# EAGLE library part XC7A100T-2FGG484I (library My_Library)
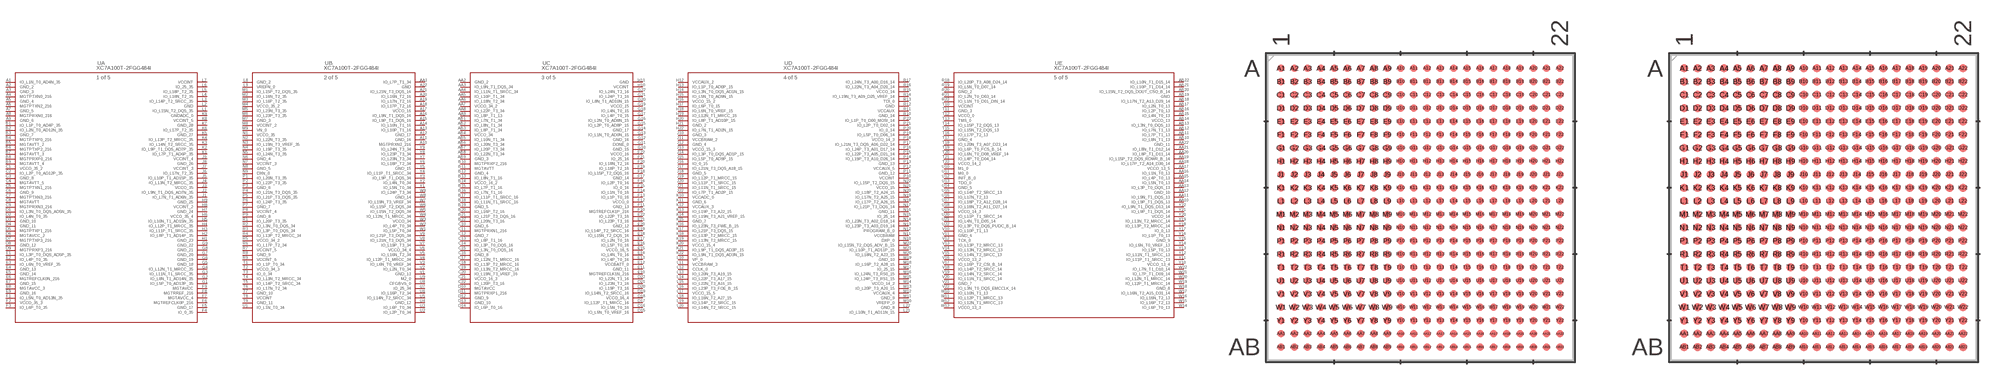
[diagram p2: symbol with the pads of FGG484(ARTIX-7)_XIL; footprints FGG484(ARTIX-7)_XIL, FGG484(ARTIX-7)_XIL-M]

Designator prefix U; gates A=XC7A100T-FGG484_A B=XC7A100T-FGG484_B C=XC7A100T-FGG484_C D=XC7A100T-FGG484_D E=XC7A100T-FGG484_E

## XC7A100T-2FGG484I (COPYRIGHT: Copyright (C) 2024 Ultra Librarian. All rights reserved.; MANUFACTURER_PART_NUMBER: XC7A100T-2FGG484I; MFR_NAME: Xilinx Inc)  [FGG484(ARTIX-7)_XIL]
A1  A:IO_L1N_T0_AD4N_35
A2  A:GND_2  pas
A3  A:GND_3  pas
A4  A:MGTPTXN0_216  out
A5  A:GND_4  pas
A6  A:MGTPTXN2_216  out
A7  A:GND_5  pas
A8  A:MGTPRXN0_216  in
A9  A:GND_6  pas
A10  B:MGTPRXN2_216  in
A11  B:GND_16  pas
A12  B:GND_17  pas
A13  B:IO_L10P_T1_16
A14  B:IO_L10N_T1_16
A15  B:IO_L9P_T1_DQS_16
A16  B:IO_L9N_T1_DQS_16
A17  B:VCCO_16  pwr
A18  B:IO_L17P_T2_16
A19  B:IO_L17N_T2_16
A20  B:IO_L16N_T2_16
A21  B:IO_L21N_T3_DQS_16
A22  B:GND  pas
AA1  B:IO_L7P_T1_34
AA2  C:GND_2  pas
AA3  C:IO_L9N_T1_DQS_34
AA4  C:IO_L11N_T1_SRCC_34
AA5  C:IO_L10P_T1_34
AA6  C:IO_L18N_T2_34
AA7  C:VCCO_34_2  pwr
AA8  C:IO_L22P_T3_34
AA9  C:IO_L8P_T1_13
AA10  E:IO_L9P_T1_DQS_13
AA11  E:IO_L9N_T1_DQS_13
AA12  E:GND_10  pas
AA13  E:IO_L3P_T0_DQS_13
AA14  E:IO_L5N_T0_13
AA15  E:IO_L4P_T0_13
AA16  E:IO_L1N_T0_13
AA17  E:VCCO_13_5  pwr
AA18  E:IO_L17P_T2_A14_D30_14
AA19  E:IO_L15P_T2_DQS_RDWR_B_14
AA20  E:IO_L8P_T1_D11_14
AA21  E:IO_L8N_T1_D12_14
AA22  E:GND_11  pas
AB1  C:IO_L7N_T1_34
AB2  C:IO_L8N_T1_34
AB3  C:IO_L8P_T1_34
AB4  C:VCCO_34  pwr
AB5  C:IO_L10N_T1_34
AB6  C:IO_L20N_T3_34
AB7  C:IO_L20P_T3_34
AB8  C:IO_L22N_T3_34
AB9  C:GND_3  pas
AB10  E:IO_L8N_T1_13
AB11  E:IO_L7P_T1_13
AB12  E:IO_L7N_T1_13
AB13  E:IO_L3N_T0_DQS_13
AB14  E:VCCO_13  pwr
AB15  E:IO_L4N_T0_13
AB16  E:IO_L2P_T0_13
AB17  E:IO_L2N_T0_13
AB18  E:IO_L17N_T2_A13_D29_14
AB19  E:GND  pas
AB20  E:IO_L15N_T2_DQS_DOUT_CSO_B_14
AB21  E:IO_L10P_T1_D14_14
AB22  E:IO_L10N_T1_D15_14
B1  A:IO_L1P_T0_AD4P_35
B2  A:IO_L2N_T0_AD12N_35
B3  A:GND_7  pas
B4  A:MGTPTXP0_216  out
B5  A:MGTAVTT_2  pwr
B6  A:MGTPTXP2_216  out
B7  A:MGTAVTT_3  pwr
B8  A:MGTPRXP0_216  in
B9  A:MGTAVTT_4  pwr
B10  C:MGTPRXP2_216  in
B11  C:MGTAVTT  pwr
B12  C:GND_4  pas
B13  C:IO_L8N_T1_16
B14  C:VCCO_16_2  pwr
B15  C:IO_L7P_T1_16
B16  C:IO_L7N_T1_16
B17  C:IO_L11P_T1_SRCC_16
B18  C:IO_L11N_T1_SRCC_16
B19  C:GND_5  pas
B20  C:IO_L16P_T2_16
B21  C:IO_L21P_T3_DQS_16
B22  C:IO_L20N_T3_16
C1  A:VCCO_35_2  pwr
C2  A:IO_L2P_T0_AD12P_35
C3  A:GND_8  pas
C4  A:MGTAVTT_5  pwr
C5  A:MGTPTXN1_216  out
C6  A:GND_9  pas
C7  A:MGTPTXN3_216  out
C8  A:MGTAVTT  pwr
C9  A:MGTPRXN3_216  in
C10  C:GND_6  pas
C11  C:MGTPRXN1_216  in
C12  C:GND_7  pas
C13  C:IO_L8P_T1_16
C14  C:IO_L3P_T0_DQS_16
C15  C:IO_L3N_T0_DQS_16
C16  C:GND_8  pas
C17  C:IO_L12N_T1_MRCC_16
C18  C:IO_L13P_T2_MRCC_16
C19  C:IO_L13N_T2_MRCC_16
C20  C:IO_L19N_T3_VREF_16
C21  C:VCCO_16_3  pwr
C22  C:IO_L20P_T3_16
D1  A:IO_L3N_T0_DQS_AD5N_35
D2  A:IO_L4N_T0_35
D3  A:GND_10  pas
D4  A:GND_11  pas
D5  A:MGTPTXP1_216  out
D6  A:MGTAVCC_2  pwr
D7  A:MGTPTXP3_216  out
D8  A:GND_12  pas
D9  A:MGTPRXP3_216  in
D10  C:MGTAVCC  pwr
D11  C:MGTPRXP1_216  in
D12  C:GND_9  pas
D13  C:GND_10  pas
D14  C:IO_L6P_T0_16
D15  C:IO_L6N_T0_VREF_16
D16  C:IO_L5N_T0_16
D17  C:IO_L12P_T1_MRCC_16
D18  C:VCCO_16_4  pwr
D19  C:IO_L14N_T2_SRCC_16
D20  C:IO_L19P_T3_16
D21  C:IO_L23N_T3_16
D22  C:IO_L22N_T3_16
E1  A:IO_L3P_T0_DQS_AD5P_35
E2  A:IO_L4P_T0_35
E3  A:IO_L6N_T0_VREF_35
E4  A:GND_13  pas
E5  A:GND_14  pas
E6  A:MGTREFCLK0N_216  in
E7  A:GND_15  pas
E8  A:MGTAVCC_3  pwr
E9  A:GND_16  pas
E10  C:MGTREFCLK1N_216  in
E11  C:GND_11  pas
E12  C:VCCBATT_0  pwr
E13  C:IO_L4P_T0_16
E14  C:IO_L4N_T0_16
E15  C:VCCO_16_5  pwr
E16  C:IO_L5P_T0_16
E17  C:IO_L2N_T0_16
E18  C:IO_L15N_T2_DQS_16
E19  C:IO_L14P_T2_SRCC_16
E20  C:GND_12  pas
E21  C:IO_L23P_T3_16
E22  C:IO_L22P_T3_16
F1  A:IO_L5N_T0_AD13N_35
F2  A:VCCO_35_3  pwr
F3  A:IO_L6P_T0_35
F4  A:IO_0_35
F5  A:GND_17  pas
F6  A:MGTREFCLK0P_216  in
F7  A:MGTAVCC_4  pwr
F8  A:MGTRREF_216  in
F9  A:MGTAVCC  pwr
F10  C:MGTREFCLK1P_216  in
F11  C:GND_13  pas
F12  C:VCCO_0  pwr
F13  C:IO_L1P_T0_16
F14  C:IO_L1N_T0_16
F15  C:IO_0_16
F16  C:IO_L2P_T0_16
F17  C:GND_14  pas
F18  C:IO_L15P_T2_DQS_16
F19  C:IO_L18P_T2_16
F20  C:IO_L18N_T2_16
F21  C:IO_25_16
F22  C:VCCO_16  pwr
G1  A:IO_L5P_T0_AD13P_35
G2  A:IO_L8N_T1_AD14N_35
G3  A:IO_L11N_T1_SRCC_35
G4  A:IO_L12N_T1_MRCC_35
G5  A:GND_18  pas
G6  A:GND_19  pas
G7  A:GND_20  pas
G8  A:GND_21  pas
G9  A:GND_22  pas
G10  C:GND_15  pas
G11  C:DONE_0
G12  C:GND_16  pas
G13  C:IO_L1N_T0_AD0N_15
G14  C:GND_17  pas
G15  C:IO_L2P_T0_AD8P_15
G16  C:IO_L2N_T0_AD8N_15
G17  C:IO_L4P_T0_15
G18  C:IO_L4N_T0_15
G19  C:VCCO_15  pwr
G20  C:IO_L8N_T1_AD10N_15
G21  C:IO_L24P_T3_16
G22  C:IO_L24N_T3_16
H1  A:GND_23  pas
H2  A:IO_L8P_T1_AD14P_35
H3  A:IO_L11P_T1_SRCC_35
H4  A:IO_L12P_T1_MRCC_35
H5  A:IO_L10N_T1_AD15N_35
H6  A:VCCO_35_4  pwr
H7  A:GND_24  pas
H8  A:VCCINT_2  pwr
H9  A:GND_25  pas
H10  C:VCCINT  pwr
H11  C:GND  pas
H12  D:VCCAUX_2  pwr
H13  D:IO_L1P_T0_AD0P_15
H14  D:IO_L3N_T0_DQS_AD1N_15
H15  D:IO_L5N_T0_AD9N_15
H16  D:VCCO_15_2  pwr
H17  D:IO_L6P_T0_15
H18  D:IO_L6N_T0_VREF_15
H19  D:IO_L12N_T1_MRCC_15
H20  D:IO_L8P_T1_AD10P_15
H21  D:GND_2  pas
H22  D:IO_L7N_T1_AD2N_15
J1  A:IO_L7N_T1_AD6N_35
J2  A:IO_L9N_T1_DQS_AD7N_35
J3  A:VCCO_35  pwr
J4  A:IO_L13N_T2_MRCC_35
J5  A:IO_L10P_T1_AD15P_35
J6  A:IO_L17N_T2_35
J7  A:VCCINT_3  pwr
J8  A:GND_26  pas
J9  A:VCCINT_4  pwr
J10  D:GND_3  pas
J11  D:VCCBRAM_2  pwr
J12  D:GND_4  pas
J13  D:VCCO_15_3  pwr
J14  D:IO_L3P_T0_DQS_AD1P_15
J15  D:IO_L5P_T0_AD9P_15
J16  D:IO_0_15
J17  D:IO_L21N_T3_DQS_A18_15
J18  D:GND_5  pas
J19  D:IO_L12P_T1_MRCC_15
J20  D:IO_L11P_T1_SRCC_15
J21  D:IO_L11N_T1_SRCC_15
J22  D:IO_L7P_T1_AD2P_15
K1  A:IO_L7P_T1_AD6P_35
K2  A:IO_L9P_T1_DQS_AD7P_35
K3  A:IO_L14N_T2_SRCC_35
K4  A:IO_L13P_T2_MRCC_35
K5  A:GND_27  pas
K6  A:IO_L17P_T2_35
K7  A:GND_28  pas
K8  A:VCCINT_5  pwr
K9  A:GNDADC_0  pas
K10  D:VCCADC_0  pwr
K11  D:GND_6  pas
K12  D:VCCAUX_3  pwr
K13  D:IO_L19P_T3_A22_15
K14  D:IO_L19N_T3_A21_VREF_15
K15  D:GND_7  pas
K16  D:IO_L23N_T3_FWE_B_15
K17  D:IO_L21P_T3_DQS_15
K18  D:IO_L13P_T2_MRCC_15
K19  D:IO_L13N_T2_MRCC_15
K20  D:VCCO_15_4  pwr
K21  D:IO_L9P_T1_DQS_AD3P_15
K22  D:IO_L9N_T1_DQS_AD3N_15
L1  A:IO_L15N_T2_DQS_35
L2  A:GND  pas
L3  A:IO_L14P_T2_SRCC_35
L4  A:IO_L18N_T2_35
L5  A:IO_L18P_T2_35
L6  A:IO_25_35
L7  A:VCCINT  pwr
L8  B:GND_2  pas
L9  B:VREFN_0  pwr
L10  D:VP_0  in
L11  D:VCCBRAM_3  pwr
L12  D:CCLK_0
L13  D:IO_L20N_T3_A19_15
L14  D:IO_L22P_T3_A17_15
L15  D:IO_L22N_T3_A16_15
L16  D:IO_L23P_T3_FOE_B_15
L17  D:VCCO_15_5  pwr
L18  D:IO_L16N_T2_A27_15
L19  D:IO_L14P_T2_SRCC_15
L20  D:IO_L14N_T2_SRCC_15
L21  D:IO_L10N_T1_AD11N_15
L22  D:GND_8  pas
M1  B:IO_L15P_T2_DQS_35
M2  B:IO_L16N_T2_35
M3  B:IO_L16P_T2_35
M4  B:VCCO_35_2  pwr
M5  B:IO_L23N_T3_35
M6  B:IO_L23P_T3_35
M7  B:GND_3  pas
M8  B:VCCINT_2  pwr
M9  B:VN_0  in
M10  D:VREFP_0  pwr
M11  D:GND_9  pas
M12  D:VCCAUX_4  pwr
M13  D:IO_L20P_T3_A20_15
M14  D:VCCO_14_2  pwr
M15  D:IO_L24P_T3_RS1_15
M16  D:IO_L24N_T3_RS0_15
M17  D:IO_25_15
M18  D:IO_L16P_T2_A28_15
M19  D:GND_10  pas
M20  D:IO_L18N_T2_A23_15
M21  D:IO_L10P_T1_AD11P_15
M22  D:IO_L15N_T2_DQS_ADV_B_15
N1  B:VCCO_35  pwr
N2  B:IO_L22N_T3_35
N3  B:IO_L19N_T3_VREF_35
N4  B:IO_L19P_T3_35
N5  B:IO_L24N_T3_35
N6  B:GND_4  pas
N7  B:VCCINT_3  pwr
N8  B:GND_5  pas
N9  B:DXN_0  pas
N10  D:DXP_0  pas
N11  D:VCCBRAM  pwr
N12  D:PROGRAM_B_0  in
N13  D:IO_L23P_T3_A03_D19_14
N14  D:IO_L23N_T3_A02_D18_14
N15  D:IO_25_14
N16  D:GND_11  pas
N17  D:IO_L21P_T3_DQS_14
N18  D:IO_L17P_T2_A26_15
N19  D:IO_L17N_T2_A25_15
N20  D:IO_L18P_T2_A24_15
N21  D:VCCO_15  pwr
N22  D:IO_L15P_T2_DQS_15
P1  B:IO_L20N_T3_35
P2  B:IO_L22P_T3_35
P3  B:GND_6  pas
P4  B:IO_L21N_T3_DQS_35
P5  B:IO_L21P_T3_DQS_35
P6  B:IO_L24P_T3_35
P7  B:GND_7  pas
P8  B:VCCINT_4  pwr
P9  B:GND_8  pas
P10  D:VCCINT  pwr
P11  D:GND_12  pas
P12  D:VCCAUX_5  pwr
P13  D:GND_13  pas
P14  D:IO_L19P_T3_A10_D26_14
P15  D:IO_L22P_T3_A05_D21_14
P16  D:IO_L24P_T3_A01_D17_14
P17  D:IO_L21N_T3_DQS_A06_D22_14
P18  D:VCCO_14_3  pwr
P19  D:IO_L5P_T0_D06_14
P20  D:IO_0_14
P21  D:IO_L2P_T0_D02_14
P22  D:IO_L1P_T0_D00_MOSI_14
R1  B:IO_L20P_T3_35
R2  B:IO_L3N_T0_DQS_34
R3  B:IO_L3P_T0_DQS_34
R4  B:IO_L13P_T2_MRCC_34
R5  B:VCCO_34_2  pwr
R6  B:IO_L17P_T2_34
R7  B:VCCINT_5  pwr
R8  B:GND_9  pas
R9  B:VCCINT_6  pwr
R10  D:GND_14  pas
R11  D:VCCAUX  pwr
R12  D:GND  pas
R13  D:TDI_0  in
R14  D:IO_L19N_T3_A09_D25_VREF_14
R15  D:VCCO_14  pwr
R16  D:IO_L22N_T3_A04_D20_14
R17  D:IO_L24N_T3_A00_D16_14
R18  E:IO_L20P_T3_A08_D24_14
R19  E:IO_L5N_T0_D07_14
R20  E:GND_2  pas
R21  E:IO_L2N_T0_D03_14
R22  E:IO_L1N_T0_D01_DIN_14
T1  B:IO_L1P_T0_34
T2  B:VCCO_34_3  pwr
T3  B:IO_0_34
T4  B:IO_L13N_T2_MRCC_34
T5  B:IO_L14P_T2_SRCC_34
T6  B:IO_L17N_T2_34
T7  B:GND_10  pas
T8  B:VCCINT  pwr
T9  B:GND_11  pas
T10  E:VCCINT  pwr
T11  E:GND_3  pas
T12  E:VCCO_0  pwr
T13  E:TMS_0  in
T14  E:IO_L15P_T2_DQS_13
T15  E:IO_L15N_T2_DQS_13
T16  E:IO_L17P_T2_13
T17  E:GND_4  pas
T18  E:IO_L20N_T3_A07_D23_14
T19  E:IO_L6P_T0_FCS_B_14
T20  E:IO_L6N_T0_D08_VREF_14
T21  E:IO_L4P_T0_D04_14
T22  E:VCCO_14_2  pwr
U1  B:IO_L1N_T0_34
U2  B:IO_L2P_T0_34
U3  B:IO_L6P_T0_34
U4  B:GND_12  pas
U5  B:IO_L14N_T2_SRCC_34
U6  B:IO_L16P_T2_34
U7  B:IO_25_34
U8  B:CFGBVS_0  in
U9  B:M2_0  in
U10  E:M1_0  in
U11  E:M0_0  in
U12  E:INIT_B_0
U13  E:TDO_0  out
U14  E:GND_5  pas
U15  E:IO_L14P_T2_SRCC_13
U16  E:IO_L17N_T2_13
U17  E:IO_L18P_T2_A12_D28_14
U18  E:IO_L18N_T2_A11_D27_14
U19  E:VCCO_14_3  pwr
U20  E:IO_L11P_T1_SRCC_14
U21  E:IO_L4N_T0_D05_14
U22  E:IO_L3P_T0_DQS_PUDC_B_14
V1  B:GND_13  pas
V2  B:IO_L2N_T0_34
V3  B:IO_L6N_T0_VREF_34
V4  B:IO_L12P_T1_MRCC_34
V5  B:IO_L16N_T2_34
V6  B:VCCO_34_4  pwr
V7  B:IO_L19P_T3_34
V8  B:IO_L21N_T3_DQS_34
V9  B:IO_L21P_T3_DQS_34
V10  E:IO_L10P_T1_13
V11  E:GND_6  pas
V12  E:TCK_0  in
V13  E:IO_L13P_T2_MRCC_13
V14  E:IO_L13N_T2_MRCC_13
V15  E:IO_L14N_T2_SRCC_13
V16  E:VCCO_13_2  pwr
V17  E:IO_L16P_T2_CSI_B_14
V18  E:IO_L14P_T2_SRCC_14
V19  E:IO_L14N_T2_SRCC_14
V20  E:IO_L11N_T1_SRCC_14
V21  E:GND_7  pas
V22  E:IO_L3N_T0_DQS_EMCCLK_14
W1  B:IO_L5P_T0_34
W2  B:IO_L4P_T0_34
W3  B:VCCO_34  pwr
W4  B:IO_L12N_T1_MRCC_34
W5  B:IO_L15N_T2_DQS_34
W6  B:IO_L15P_T2_DQS_34
W7  B:IO_L19N_T3_VREF_34
W8  B:GND_14  pas
W9  B:IO_L24P_T3_34
W10  E:IO_L10N_T1_13
W11  E:IO_L12P_T1_MRCC_13
W12  E:IO_L12N_T1_MRCC_13
W13  E:VCCO_13_3  pwr
W14  E:IO_L6P_T0_13
W15  E:IO_L16P_T2_13
W16  E:IO_L16N_T2_13
W17  E:IO_L16N_T2_A15_D31_14
W18  E:GND_8  pas
W19  E:IO_L12P_T1_MRCC_14
W20  E:IO_L12N_T1_MRCC_14
W21  E:IO_L7P_T1_D09_14
W22  E:IO_L7N_T1_D10_14
Y1  B:IO_L5N_T0_34
Y2  B:IO_L4N_T0_34
Y3  B:IO_L9P_T1_DQS_34
Y4  B:IO_L11P_T1_SRCC_34
Y5  B:GND_15  pas
Y6  B:IO_L18P_T2_34
Y7  B:IO_L23N_T3_34
Y8  B:IO_L23P_T3_34
Y9  B:IO_L24N_T3_34
Y10  E:VCCO_13_4  pwr
Y11  E:IO_L11P_T1_SRCC_13
Y12  E:IO_L11N_T1_SRCC_13
Y13  E:IO_L5P_T0_13
Y14  E:IO_L6N_T0_VREF_13
Y15  E:GND_9  pas
Y16  E:IO_L1P_T0_13
Y17  E:IO_0_13
Y18  E:IO_L13P_T2_MRCC_14
Y19  E:IO_L13N_T2_MRCC_14
Y20  E:VCCO_14  pwr
Y21  E:IO_L9P_T1_DQS_14
Y22  E:IO_L9N_T1_DQS_D13_14

## XC7A100T-2FGG484IFGG484(ARTIX-7)_XIL-M (COPYRIGHT: Copyright (C) 2024 Ultra Librarian. All rights reserved.; MANUFACTURER_PART_NUMBER: XC7A100T-2FGG484I; MFR_NAME: Xilinx Inc)  [FGG484(ARTIX-7)_XIL-M]
Pads as for FGG484(ARTIX-7)_XIL

## XC7A100T-2FGG484IFGG484(ARTIX-7)_XIL-L (COPYRIGHT: Copyright (C) 2024 Ultra Librarian. All rights reserved.; MANUFACTURER_PART_NUMBER: XC7A100T-2FGG484I; MFR_NAME: Xilinx Inc)  [FGG484(ARTIX-7)_XIL-L]
Pads as for FGG484(ARTIX-7)_XIL

## Footprint FGG484(ARTIX-7)_XIL (pad centres in mm)
smd 0.559 x 0.559: A1 -10.5,10.5; A2 -9.5,10.5; A3 -8.5,10.5; A4 -7.5,10.5; A5 -6.5,10.5; A6 -5.5,10.5; A7 -4.5,10.5; A8 -3.5,10.5; A9 -2.5,10.5; A10 -1.5,10.5; A11 -0.5,10.5; A12 0.5,10.5; A13 1.5,10.5; A14 2.5,10.5; A15 3.5,10.5; A16 4.5,10.5; A17 5.5,10.5; A18 6.5,10.5; A19 7.5,10.5; A20 8.5,10.5; A21 9.5,10.5; A22 10.5,10.5; AA1 -10.5,-9.5; AA2 -9.5,-9.5; AA3 -8.5,-9.5; AA4 -7.5,-9.5; AA5 -6.5,-9.5; AA6 -5.5,-9.5; AA7 -4.5,-9.5; AA8 -3.5,-9.5; AA9 -2.5,-9.5; AA10 -1.5,-9.5; AA11 -0.5,-9.5; AA12 0.5,-9.5; AA13 1.5,-9.5; AA14 2.5,-9.5; AA15 3.5,-9.5; AA16 4.5,-9.5; AA17 5.5,-9.5; AA18 6.5,-9.5; AA19 7.5,-9.5; AA20 8.5,-9.5; AA21 9.5,-9.5; AA22 10.5,-9.5; AB1 -10.5,-10.5; AB2 -9.5,-10.5; AB3 -8.5,-10.5; AB4 -7.5,-10.5; AB5 -6.5,-10.5; AB6 -5.5,-10.5; AB7 -4.5,-10.5; AB8 -3.5,-10.5; AB9 -2.5,-10.5; AB10 -1.5,-10.5; AB11 -0.5,-10.5; AB12 0.5,-10.5; AB13 1.5,-10.5; AB14 2.5,-10.5; AB15 3.5,-10.5; AB16 4.5,-10.5; AB17 5.5,-10.5; AB18 6.5,-10.5; AB19 7.5,-10.5; AB20 8.5,-10.5; AB21 9.5,-10.5; AB22 10.5,-10.5; B1 -10.5,9.5; B2 -9.5,9.5; B3 -8.5,9.5; B4 -7.5,9.5; B5 -6.5,9.5; B6 -5.5,9.5; B7 -4.5,9.5; B8 -3.5,9.5; B9 -2.5,9.5; B10 -1.5,9.5; B11 -0.5,9.5; B12 0.5,9.5; B13 1.5,9.5; B14 2.5,9.5; B15 3.5,9.5; B16 4.5,9.5; B17 5.5,9.5; B18 6.5,9.5; B19 7.5,9.5; B20 8.5,9.5; B21 9.5,9.5; B22 10.5,9.5; C1 -10.5,8.5; C2 -9.5,8.5; C3 -8.5,8.5; C4 -7.5,8.5; C5 -6.5,8.5; C6 -5.5,8.5; C7 -4.5,8.5; C8 -3.5,8.5; C9 -2.5,8.5; C10 -1.5,8.5; C11 -0.5,8.5; C12 0.5,8.5; C13 1.5,8.5; C14 2.5,8.5; C15 3.5,8.5; C16 4.5,8.5; C17 5.5,8.5; C18 6.5,8.5; C19 7.5,8.5; C20 8.5,8.5; C21 9.5,8.5; C22 10.5,8.5; D1 -10.5,7.5; D2 -9.5,7.5; D3 -8.5,7.5; D4 -7.5,7.5; D5 -6.5,7.5; D6 -5.5,7.5; D7 -4.5,7.5; D8 -3.5,7.5; D9 -2.5,7.5; D10 -1.5,7.5; D11 -0.5,7.5; D12 0.5,7.5; D13 1.5,7.5; D14 2.5,7.5; D15 3.5,7.5; D16 4.5,7.5; D17 5.5,7.5; D18 6.5,7.5; D19 7.5,7.5; D20 8.5,7.5; D21 9.5,7.5; D22 10.5,7.5; E1 -10.5,6.5; E2 -9.5,6.5; E3 -8.5,6.5; E4 -7.5,6.5; E5 -6.5,6.5; E6 -5.5,6.5; E7 -4.5,6.5; E8 -3.5,6.5; E9 -2.5,6.5; E10 -1.5,6.5; E11 -0.5,6.5; E12 0.5,6.5; E13 1.5,6.5; E14 2.5,6.5; E15 3.5,6.5; E16 4.5,6.5; E17 5.5,6.5; E18 6.5,6.5; E19 7.5,6.5; E20 8.5,6.5; E21 9.5,6.5; E22 10.5,6.5; F1 -10.5,5.5; F2 -9.5,5.5; F3 -8.5,5.5; F4 -7.5,5.5; F5 -6.5,5.5; F6 -5.5,5.5; F7 -4.5,5.5; F8 -3.5,5.5; F9 -2.5,5.5; F10 -1.5,5.5; F11 -0.5,5.5; F12 0.5,5.5; F13 1.5,5.5; F14 2.5,5.5; F15 3.5,5.5; F16 4.5,5.5; F17 5.5,5.5; F18 6.5,5.5; F19 7.5,5.5; F20 8.5,5.5; F21 9.5,5.5; F22 10.5,5.5; G1 -10.5,4.5; G2 -9.5,4.5; G3 -8.5,4.5; G4 -7.5,4.5; G5 -6.5,4.5; G6 -5.5,4.5; G7 -4.5,4.5; G8 -3.5,4.5; G9 -2.5,4.5; G10 -1.5,4.5; G11 -0.5,4.5; G12 0.5,4.5; G13 1.5,4.5; G14 2.5,4.5; G15 3.5,4.5; G16 4.5,4.5; G17 5.5,4.5; G18 6.5,4.5; G19 7.5,4.5; G20 8.5,4.5; G21 9.5,4.5; G22 10.5,4.5; H1 -10.5,3.5; H2 -9.5,3.5; H3 -8.5,3.5; H4 -7.5,3.5; H5 -6.5,3.5; H6 -5.5,3.5; H7 -4.5,3.5; H8 -3.5,3.5; H9 -2.5,3.5; H10 -1.5,3.5; H11 -0.5,3.5; H12 0.5,3.5; H13 1.5,3.5; H14 2.5,3.5; H15 3.5,3.5; H16 4.5,3.5; H17 5.5,3.5; H18 6.5,3.5; H19 7.5,3.5; H20 8.5,3.5; H21 9.5,3.5; H22 10.5,3.5; J1 -10.5,2.5; J2 -9.5,2.5; J3 -8.5,2.5; J4 -7.5,2.5; J5 -6.5,2.5; J6 -5.5,2.5; J7 -4.5,2.5; J8 -3.5,2.5; J9 -2.5,2.5; J10 -1.5,2.5; J11 -0.5,2.5; J12 0.5,2.5; J13 1.5,2.5; J14 2.5,2.5; J15 3.5,2.5; J16 4.5,2.5; J17 5.5,2.5; J18 6.5,2.5; J19 7.5,2.5; J20 8.5,2.5; J21 9.5,2.5; J22 10.5,2.5; K1 -10.5,1.5; K2 -9.5,1.5; K3 -8.5,1.5; K4 -7.5,1.5; K5 -6.5,1.5; K6 -5.5,1.5; K7 -4.5,1.5; K8 -3.5,1.5; K9 -2.5,1.5; K10 -1.5,1.5; K11 -0.5,1.5; K12 0.5,1.5; K13 1.5,1.5; K14 2.5,1.5; K15 3.5,1.5; K16 4.5,1.5; K17 5.5,1.5; K18 6.5,1.5; K19 7.5,1.5; K20 8.5,1.5; K21 9.5,1.5; K22 10.5,1.5; L1 -10.5,0.5; L2 -9.5,0.5; L3 -8.5,0.5; L4 -7.5,0.5; L5 -6.5,0.5; L6 -5.5,0.5; L7 -4.5,0.5; L8 -3.5,0.5; L9 -2.5,0.5; L10 -1.5,0.5; L11 -0.5,0.5; L12 0.5,0.5; L13 1.5,0.5; L14 2.5,0.5; L15 3.5,0.5; L16 4.5,0.5; L17 5.5,0.5; L18 6.5,0.5; L19 7.5,0.5; L20 8.5,0.5; L21 9.5,0.5; L22 10.5,0.5; M1 -10.5,-0.5; M2 -9.5,-0.5; M3 -8.5,-0.5; M4 -7.5,-0.5; M5 -6.5,-0.5; M6 -5.5,-0.5; M7 -4.5,-0.5; M8 -3.5,-0.5; M9 -2.5,-0.5; M10 -1.5,-0.5; M11 -0.5,-0.5; M12 0.5,-0.5; M13 1.5,-0.5; M14 2.5,-0.5; M15 3.5,-0.5; M16 4.5,-0.5; M17 5.5,-0.5; M18 6.5,-0.5; M19 7.5,-0.5; M20 8.5,-0.5; M21 9.5,-0.5; M22 10.5,-0.5; N1 -10.5,-1.5; N2 -9.5,-1.5; N3 -8.5,-1.5; N4 -7.5,-1.5; N5 -6.5,-1.5; N6 -5.5,-1.5; N7 -4.5,-1.5; N8 -3.5,-1.5; N9 -2.5,-1.5; N10 -1.5,-1.5; N11 -0.5,-1.5; N12 0.5,-1.5; N13 1.5,-1.5; N14 2.5,-1.5; N15 3.5,-1.5; N16 4.5,-1.5; N17 5.5,-1.5; N18 6.5,-1.5; N19 7.5,-1.5; N20 8.5,-1.5; N21 9.5,-1.5; N22 10.5,-1.5; P1 -10.5,-2.5; P2 -9.5,-2.5; P3 -8.5,-2.5; P4 -7.5,-2.5; P5 -6.5,-2.5; P6 -5.5,-2.5; P7 -4.5,-2.5; P8 -3.5,-2.5; P9 -2.5,-2.5; P10 -1.5,-2.5; P11 -0.5,-2.5; P12 0.5,-2.5; P13 1.5,-2.5; P14 2.5,-2.5; P15 3.5,-2.5; P16 4.5,-2.5; P17 5.5,-2.5; P18 6.5,-2.5; P19 7.5,-2.5; P20 8.5,-2.5; P21 9.5,-2.5; P22 10.5,-2.5; R1 -10.5,-3.5; R2 -9.5,-3.5; R3 -8.5,-3.5; R4 -7.5,-3.5; R5 -6.5,-3.5; R6 -5.5,-3.5; R7 -4.5,-3.5; R8 -3.5,-3.5; R9 -2.5,-3.5; R10 -1.5,-3.5; R11 -0.5,-3.5; R12 0.5,-3.5; R13 1.5,-3.5; R14 2.5,-3.5; R15 3.5,-3.5; R16 4.5,-3.5; R17 5.5,-3.5; R18 6.5,-3.5; R19 7.5,-3.5; R20 8.5,-3.5; R21 9.5,-3.5; R22 10.5,-3.5; T1 -10.5,-4.5; T2 -9.5,-4.5; T3 -8.5,-4.5; T4 -7.5,-4.5; T5 -6.5,-4.5; T6 -5.5,-4.5; T7 -4.5,-4.5; T8 -3.5,-4.5; T9 -2.5,-4.5; T10 -1.5,-4.5; T11 -0.5,-4.5; T12 0.5,-4.5; T13 1.5,-4.5; T14 2.5,-4.5; T15 3.5,-4.5; T16 4.5,-4.5; T17 5.5,-4.5; T18 6.5,-4.5; T19 7.5,-4.5; T20 8.5,-4.5; T21 9.5,-4.5; T22 10.5,-4.5; U1 -10.5,-5.5; U2 -9.5,-5.5; U3 -8.5,-5.5; U4 -7.5,-5.5; U5 -6.5,-5.5; U6 -5.5,-5.5; U7 -4.5,-5.5; U8 -3.5,-5.5; U9 -2.5,-5.5; U10 -1.5,-5.5; U11 -0.5,-5.5; U12 0.5,-5.5; U13 1.5,-5.5; U14 2.5,-5.5; U15 3.5,-5.5; U16 4.5,-5.5; U17 5.5,-5.5; U18 6.5,-5.5; U19 7.5,-5.5; U20 8.5,-5.5; U21 9.5,-5.5; U22 10.5,-5.5; V1 -10.5,-6.5; V2 -9.5,-6.5; V3 -8.5,-6.5; V4 -7.5,-6.5; V5 -6.5,-6.5; V6 -5.5,-6.5; V7 -4.5,-6.5; V8 -3.5,-6.5; V9 -2.5,-6.5; V10 -1.5,-6.5; V11 -0.5,-6.5; V12 0.5,-6.5; V13 1.5,-6.5; V14 2.5,-6.5; V15 3.5,-6.5; V16 4.5,-6.5; V17 5.5,-6.5; V18 6.5,-6.5; V19 7.5,-6.5; V20 8.5,-6.5; V21 9.5,-6.5; V22 10.5,-6.5; W1 -10.5,-7.5; W2 -9.5,-7.5; W3 -8.5,-7.5; W4 -7.5,-7.5; W5 -6.5,-7.5; W6 -5.5,-7.5; W7 -4.5,-7.5; W8 -3.5,-7.5; W9 -2.5,-7.5; W10 -1.5,-7.5; W11 -0.5,-7.5; W12 0.5,-7.5; W13 1.5,-7.5; W14 2.5,-7.5; W15 3.5,-7.5; W16 4.5,-7.5; W17 5.5,-7.5; W18 6.5,-7.5; W19 7.5,-7.5; W20 8.5,-7.5; W21 9.5,-7.5; W22 10.5,-7.5; Y1 -10.5,-8.5; Y2 -9.5,-8.5; Y3 -8.5,-8.5; Y4 -7.5,-8.5; Y5 -6.5,-8.5; Y6 -5.5,-8.5; Y7 -4.5,-8.5; Y8 -3.5,-8.5; Y9 -2.5,-8.5; Y10 -1.5,-8.5; Y11 -0.5,-8.5; Y12 0.5,-8.5; Y13 1.5,-8.5; Y14 2.5,-8.5; Y15 3.5,-8.5; Y16 4.5,-8.5; Y17 5.5,-8.5; Y18 6.5,-8.5; Y19 7.5,-8.5; Y20 8.5,-8.5; Y21 9.5,-8.5; Y22 10.5,-8.5

## Footprint FGG484(ARTIX-7)_XIL-M (pad centres in mm)
smd 0.61 x 0.61: A1 -10.5,10.5; A2 -9.5,10.5; A3 -8.5,10.5; A4 -7.5,10.5; A5 -6.5,10.5; A6 -5.5,10.5; A7 -4.5,10.5; A8 -3.5,10.5; A9 -2.5,10.5; A10 -1.5,10.5; A11 -0.5,10.5; A12 0.5,10.5; A13 1.5,10.5; A14 2.5,10.5; A15 3.5,10.5; A16 4.5,10.5; A17 5.5,10.5; A18 6.5,10.5; A19 7.5,10.5; A20 8.5,10.5; A21 9.5,10.5; A22 10.5,10.5; AA1 -10.5,-9.5; AA2 -9.5,-9.5; AA3 -8.5,-9.5; AA4 -7.5,-9.5; AA5 -6.5,-9.5; AA6 -5.5,-9.5; AA7 -4.5,-9.5; AA8 -3.5,-9.5; AA9 -2.5,-9.5; AA10 -1.5,-9.5; AA11 -0.5,-9.5; AA12 0.5,-9.5; AA13 1.5,-9.5; AA14 2.5,-9.5; AA15 3.5,-9.5; AA16 4.5,-9.5; AA17 5.5,-9.5; AA18 6.5,-9.5; AA19 7.5,-9.5; AA20 8.5,-9.5; AA21 9.5,-9.5; AA22 10.5,-9.5; AB1 -10.5,-10.5; AB2 -9.5,-10.5; AB3 -8.5,-10.5; AB4 -7.5,-10.5; AB5 -6.5,-10.5; AB6 -5.5,-10.5; AB7 -4.5,-10.5; AB8 -3.5,-10.5; AB9 -2.5,-10.5; AB10 -1.5,-10.5; AB11 -0.5,-10.5; AB12 0.5,-10.5; AB13 1.5,-10.5; AB14 2.5,-10.5; AB15 3.5,-10.5; AB16 4.5,-10.5; AB17 5.5,-10.5; AB18 6.5,-10.5; AB19 7.5,-10.5; AB20 8.5,-10.5; AB21 9.5,-10.5; AB22 10.5,-10.5; B1 -10.5,9.5; B2 -9.5,9.5; B3 -8.5,9.5; B4 -7.5,9.5; B5 -6.5,9.5; B6 -5.5,9.5; B7 -4.5,9.5; B8 -3.5,9.5; B9 -2.5,9.5; B10 -1.5,9.5; B11 -0.5,9.5; B12 0.5,9.5; B13 1.5,9.5; B14 2.5,9.5; B15 3.5,9.5; B16 4.5,9.5; B17 5.5,9.5; B18 6.5,9.5; B19 7.5,9.5; B20 8.5,9.5; B21 9.5,9.5; B22 10.5,9.5; C1 -10.5,8.5; C2 -9.5,8.5; C3 -8.5,8.5; C4 -7.5,8.5; C5 -6.5,8.5; C6 -5.5,8.5; C7 -4.5,8.5; C8 -3.5,8.5; C9 -2.5,8.5; C10 -1.5,8.5; C11 -0.5,8.5; C12 0.5,8.5; C13 1.5,8.5; C14 2.5,8.5; C15 3.5,8.5; C16 4.5,8.5; C17 5.5,8.5; C18 6.5,8.5; C19 7.5,8.5; C20 8.5,8.5; C21 9.5,8.5; C22 10.5,8.5; D1 -10.5,7.5; D2 -9.5,7.5; D3 -8.5,7.5; D4 -7.5,7.5; D5 -6.5,7.5; D6 -5.5,7.5; D7 -4.5,7.5; D8 -3.5,7.5; D9 -2.5,7.5; D10 -1.5,7.5; D11 -0.5,7.5; D12 0.5,7.5; D13 1.5,7.5; D14 2.5,7.5; D15 3.5,7.5; D16 4.5,7.5; D17 5.5,7.5; D18 6.5,7.5; D19 7.5,7.5; D20 8.5,7.5; D21 9.5,7.5; D22 10.5,7.5; E1 -10.5,6.5; E2 -9.5,6.5; E3 -8.5,6.5; E4 -7.5,6.5; E5 -6.5,6.5; E6 -5.5,6.5; E7 -4.5,6.5; E8 -3.5,6.5; E9 -2.5,6.5; E10 -1.5,6.5; E11 -0.5,6.5; E12 0.5,6.5; E13 1.5,6.5; E14 2.5,6.5; E15 3.5,6.5; E16 4.5,6.5; E17 5.5,6.5; E18 6.5,6.5; E19 7.5,6.5; E20 8.5,6.5; E21 9.5,6.5; E22 10.5,6.5; F1 -10.5,5.5; F2 -9.5,5.5; F3 -8.5,5.5; F4 -7.5,5.5; F5 -6.5,5.5; F6 -5.5,5.5; F7 -4.5,5.5; F8 -3.5,5.5; F9 -2.5,5.5; F10 -1.5,5.5; F11 -0.5,5.5; F12 0.5,5.5; F13 1.5,5.5; F14 2.5,5.5; F15 3.5,5.5; F16 4.5,5.5; F17 5.5,5.5; F18 6.5,5.5; F19 7.5,5.5; F20 8.5,5.5; F21 9.5,5.5; F22 10.5,5.5; G1 -10.5,4.5; G2 -9.5,4.5; G3 -8.5,4.5; G4 -7.5,4.5; G5 -6.5,4.5; G6 -5.5,4.5; G7 -4.5,4.5; G8 -3.5,4.5; G9 -2.5,4.5; G10 -1.5,4.5; G11 -0.5,4.5; G12 0.5,4.5; G13 1.5,4.5; G14 2.5,4.5; G15 3.5,4.5; G16 4.5,4.5; G17 5.5,4.5; G18 6.5,4.5; G19 7.5,4.5; G20 8.5,4.5; G21 9.5,4.5; G22 10.5,4.5; H1 -10.5,3.5; H2 -9.5,3.5; H3 -8.5,3.5; H4 -7.5,3.5; H5 -6.5,3.5; H6 -5.5,3.5; H7 -4.5,3.5; H8 -3.5,3.5; H9 -2.5,3.5; H10 -1.5,3.5; H11 -0.5,3.5; H12 0.5,3.5; H13 1.5,3.5; H14 2.5,3.5; H15 3.5,3.5; H16 4.5,3.5; H17 5.5,3.5; H18 6.5,3.5; H19 7.5,3.5; H20 8.5,3.5; H21 9.5,3.5; H22 10.5,3.5; J1 -10.5,2.5; J2 -9.5,2.5; J3 -8.5,2.5; J4 -7.5,2.5; J5 -6.5,2.5; J6 -5.5,2.5; J7 -4.5,2.5; J8 -3.5,2.5; J9 -2.5,2.5; J10 -1.5,2.5; J11 -0.5,2.5; J12 0.5,2.5; J13 1.5,2.5; J14 2.5,2.5; J15 3.5,2.5; J16 4.5,2.5; J17 5.5,2.5; J18 6.5,2.5; J19 7.5,2.5; J20 8.5,2.5; J21 9.5,2.5; J22 10.5,2.5; K1 -10.5,1.5; K2 -9.5,1.5; K3 -8.5,1.5; K4 -7.5,1.5; K5 -6.5,1.5; K6 -5.5,1.5; K7 -4.5,1.5; K8 -3.5,1.5; K9 -2.5,1.5; K10 -1.5,1.5; K11 -0.5,1.5; K12 0.5,1.5; K13 1.5,1.5; K14 2.5,1.5; K15 3.5,1.5; K16 4.5,1.5; K17 5.5,1.5; K18 6.5,1.5; K19 7.5,1.5; K20 8.5,1.5; K21 9.5,1.5; K22 10.5,1.5; L1 -10.5,0.5; L2 -9.5,0.5; L3 -8.5,0.5; L4 -7.5,0.5; L5 -6.5,0.5; L6 -5.5,0.5; L7 -4.5,0.5; L8 -3.5,0.5; L9 -2.5,0.5; L10 -1.5,0.5; L11 -0.5,0.5; L12 0.5,0.5; L13 1.5,0.5; L14 2.5,0.5; L15 3.5,0.5; L16 4.5,0.5; L17 5.5,0.5; L18 6.5,0.5; L19 7.5,0.5; L20 8.5,0.5; L21 9.5,0.5; L22 10.5,0.5; M1 -10.5,-0.5; M2 -9.5,-0.5; M3 -8.5,-0.5; M4 -7.5,-0.5; M5 -6.5,-0.5; M6 -5.5,-0.5; M7 -4.5,-0.5; M8 -3.5,-0.5; M9 -2.5,-0.5; M10 -1.5,-0.5; M11 -0.5,-0.5; M12 0.5,-0.5; M13 1.5,-0.5; M14 2.5,-0.5; M15 3.5,-0.5; M16 4.5,-0.5; M17 5.5,-0.5; M18 6.5,-0.5; M19 7.5,-0.5; M20 8.5,-0.5; M21 9.5,-0.5; M22 10.5,-0.5; N1 -10.5,-1.5; N2 -9.5,-1.5; N3 -8.5,-1.5; N4 -7.5,-1.5; N5 -6.5,-1.5; N6 -5.5,-1.5; N7 -4.5,-1.5; N8 -3.5,-1.5; N9 -2.5,-1.5; N10 -1.5,-1.5; N11 -0.5,-1.5; N12 0.5,-1.5; N13 1.5,-1.5; N14 2.5,-1.5; N15 3.5,-1.5; N16 4.5,-1.5; N17 5.5,-1.5; N18 6.5,-1.5; N19 7.5,-1.5; N20 8.5,-1.5; N21 9.5,-1.5; N22 10.5,-1.5; P1 -10.5,-2.5; P2 -9.5,-2.5; P3 -8.5,-2.5; P4 -7.5,-2.5; P5 -6.5,-2.5; P6 -5.5,-2.5; P7 -4.5,-2.5; P8 -3.5,-2.5; P9 -2.5,-2.5; P10 -1.5,-2.5; P11 -0.5,-2.5; P12 0.5,-2.5; P13 1.5,-2.5; P14 2.5,-2.5; P15 3.5,-2.5; P16 4.5,-2.5; P17 5.5,-2.5; P18 6.5,-2.5; P19 7.5,-2.5; P20 8.5,-2.5; P21 9.5,-2.5; P22 10.5,-2.5; R1 -10.5,-3.5; R2 -9.5,-3.5; R3 -8.5,-3.5; R4 -7.5,-3.5; R5 -6.5,-3.5; R6 -5.5,-3.5; R7 -4.5,-3.5; R8 -3.5,-3.5; R9 -2.5,-3.5; R10 -1.5,-3.5; R11 -0.5,-3.5; R12 0.5,-3.5; R13 1.5,-3.5; R14 2.5,-3.5; R15 3.5,-3.5; R16 4.5,-3.5; R17 5.5,-3.5; R18 6.5,-3.5; R19 7.5,-3.5; R20 8.5,-3.5; R21 9.5,-3.5; R22 10.5,-3.5; T1 -10.5,-4.5; T2 -9.5,-4.5; T3 -8.5,-4.5; T4 -7.5,-4.5; T5 -6.5,-4.5; T6 -5.5,-4.5; T7 -4.5,-4.5; T8 -3.5,-4.5; T9 -2.5,-4.5; T10 -1.5,-4.5; T11 -0.5,-4.5; T12 0.5,-4.5; T13 1.5,-4.5; T14 2.5,-4.5; T15 3.5,-4.5; T16 4.5,-4.5; T17 5.5,-4.5; T18 6.5,-4.5; T19 7.5,-4.5; T20 8.5,-4.5; T21 9.5,-4.5; T22 10.5,-4.5; U1 -10.5,-5.5; U2 -9.5,-5.5; U3 -8.5,-5.5; U4 -7.5,-5.5; U5 -6.5,-5.5; U6 -5.5,-5.5; U7 -4.5,-5.5; U8 -3.5,-5.5; U9 -2.5,-5.5; U10 -1.5,-5.5; U11 -0.5,-5.5; U12 0.5,-5.5; U13 1.5,-5.5; U14 2.5,-5.5; U15 3.5,-5.5; U16 4.5,-5.5; U17 5.5,-5.5; U18 6.5,-5.5; U19 7.5,-5.5; U20 8.5,-5.5; U21 9.5,-5.5; U22 10.5,-5.5; V1 -10.5,-6.5; V2 -9.5,-6.5; V3 -8.5,-6.5; V4 -7.5,-6.5; V5 -6.5,-6.5; V6 -5.5,-6.5; V7 -4.5,-6.5; V8 -3.5,-6.5; V9 -2.5,-6.5; V10 -1.5,-6.5; V11 -0.5,-6.5; V12 0.5,-6.5; V13 1.5,-6.5; V14 2.5,-6.5; V15 3.5,-6.5; V16 4.5,-6.5; V17 5.5,-6.5; V18 6.5,-6.5; V19 7.5,-6.5; V20 8.5,-6.5; V21 9.5,-6.5; V22 10.5,-6.5; W1 -10.5,-7.5; W2 -9.5,-7.5; W3 -8.5,-7.5; W4 -7.5,-7.5; W5 -6.5,-7.5; W6 -5.5,-7.5; W7 -4.5,-7.5; W8 -3.5,-7.5; W9 -2.5,-7.5; W10 -1.5,-7.5; W11 -0.5,-7.5; W12 0.5,-7.5; W13 1.5,-7.5; W14 2.5,-7.5; W15 3.5,-7.5; W16 4.5,-7.5; W17 5.5,-7.5; W18 6.5,-7.5; W19 7.5,-7.5; W20 8.5,-7.5; W21 9.5,-7.5; W22 10.5,-7.5; Y1 -10.5,-8.5; Y2 -9.5,-8.5; Y3 -8.5,-8.5; Y4 -7.5,-8.5; Y5 -6.5,-8.5; Y6 -5.5,-8.5; Y7 -4.5,-8.5; Y8 -3.5,-8.5; Y9 -2.5,-8.5; Y10 -1.5,-8.5; Y11 -0.5,-8.5; Y12 0.5,-8.5; Y13 1.5,-8.5; Y14 2.5,-8.5; Y15 3.5,-8.5; Y16 4.5,-8.5; Y17 5.5,-8.5; Y18 6.5,-8.5; Y19 7.5,-8.5; Y20 8.5,-8.5; Y21 9.5,-8.5; Y22 10.5,-8.5

## Footprint FGG484(ARTIX-7)_XIL-L (pad centres in mm)
smd 0.533 x 0.533: A1 -10.5,10.5; A2 -9.5,10.5; A3 -8.5,10.5; A4 -7.5,10.5; A5 -6.5,10.5; A6 -5.5,10.5; A7 -4.5,10.5; A8 -3.5,10.5; A9 -2.5,10.5; A10 -1.5,10.5; A11 -0.5,10.5; A12 0.5,10.5; A13 1.5,10.5; A14 2.5,10.5; A15 3.5,10.5; A16 4.5,10.5; A17 5.5,10.5; A18 6.5,10.5; A19 7.5,10.5; A20 8.5,10.5; A21 9.5,10.5; A22 10.5,10.5; AA1 -10.5,-9.5; AA2 -9.5,-9.5; AA3 -8.5,-9.5; AA4 -7.5,-9.5; AA5 -6.5,-9.5; AA6 -5.5,-9.5; AA7 -4.5,-9.5; AA8 -3.5,-9.5; AA9 -2.5,-9.5; AA10 -1.5,-9.5; AA11 -0.5,-9.5; AA12 0.5,-9.5; AA13 1.5,-9.5; AA14 2.5,-9.5; AA15 3.5,-9.5; AA16 4.5,-9.5; AA17 5.5,-9.5; AA18 6.5,-9.5; AA19 7.5,-9.5; AA20 8.5,-9.5; AA21 9.5,-9.5; AA22 10.5,-9.5; AB1 -10.5,-10.5; AB2 -9.5,-10.5; AB3 -8.5,-10.5; AB4 -7.5,-10.5; AB5 -6.5,-10.5; AB6 -5.5,-10.5; AB7 -4.5,-10.5; AB8 -3.5,-10.5; AB9 -2.5,-10.5; AB10 -1.5,-10.5; AB11 -0.5,-10.5; AB12 0.5,-10.5; AB13 1.5,-10.5; AB14 2.5,-10.5; AB15 3.5,-10.5; AB16 4.5,-10.5; AB17 5.5,-10.5; AB18 6.5,-10.5; AB19 7.5,-10.5; AB20 8.5,-10.5; AB21 9.5,-10.5; AB22 10.5,-10.5; B1 -10.5,9.5; B2 -9.5,9.5; B3 -8.5,9.5; B4 -7.5,9.5; B5 -6.5,9.5; B6 -5.5,9.5; B7 -4.5,9.5; B8 -3.5,9.5; B9 -2.5,9.5; B10 -1.5,9.5; B11 -0.5,9.5; B12 0.5,9.5; B13 1.5,9.5; B14 2.5,9.5; B15 3.5,9.5; B16 4.5,9.5; B17 5.5,9.5; B18 6.5,9.5; B19 7.5,9.5; B20 8.5,9.5; B21 9.5,9.5; B22 10.5,9.5; C1 -10.5,8.5; C2 -9.5,8.5; C3 -8.5,8.5; C4 -7.5,8.5; C5 -6.5,8.5; C6 -5.5,8.5; C7 -4.5,8.5; C8 -3.5,8.5; C9 -2.5,8.5; C10 -1.5,8.5; C11 -0.5,8.5; C12 0.5,8.5; C13 1.5,8.5; C14 2.5,8.5; C15 3.5,8.5; C16 4.5,8.5; C17 5.5,8.5; C18 6.5,8.5; C19 7.5,8.5; C20 8.5,8.5; C21 9.5,8.5; C22 10.5,8.5; D1 -10.5,7.5; D2 -9.5,7.5; D3 -8.5,7.5; D4 -7.5,7.5; D5 -6.5,7.5; D6 -5.5,7.5; D7 -4.5,7.5; D8 -3.5,7.5; D9 -2.5,7.5; D10 -1.5,7.5; D11 -0.5,7.5; D12 0.5,7.5; D13 1.5,7.5; D14 2.5,7.5; D15 3.5,7.5; D16 4.5,7.5; D17 5.5,7.5; D18 6.5,7.5; D19 7.5,7.5; D20 8.5,7.5; D21 9.5,7.5; D22 10.5,7.5; E1 -10.5,6.5; E2 -9.5,6.5; E3 -8.5,6.5; E4 -7.5,6.5; E5 -6.5,6.5; E6 -5.5,6.5; E7 -4.5,6.5; E8 -3.5,6.5; E9 -2.5,6.5; E10 -1.5,6.5; E11 -0.5,6.5; E12 0.5,6.5; E13 1.5,6.5; E14 2.5,6.5; E15 3.5,6.5; E16 4.5,6.5; E17 5.5,6.5; E18 6.5,6.5; E19 7.5,6.5; E20 8.5,6.5; E21 9.5,6.5; E22 10.5,6.5; F1 -10.5,5.5; F2 -9.5,5.5; F3 -8.5,5.5; F4 -7.5,5.5; F5 -6.5,5.5; F6 -5.5,5.5; F7 -4.5,5.5; F8 -3.5,5.5; F9 -2.5,5.5; F10 -1.5,5.5; F11 -0.5,5.5; F12 0.5,5.5; F13 1.5,5.5; F14 2.5,5.5; F15 3.5,5.5; F16 4.5,5.5; F17 5.5,5.5; F18 6.5,5.5; F19 7.5,5.5; F20 8.5,5.5; F21 9.5,5.5; F22 10.5,5.5; G1 -10.5,4.5; G2 -9.5,4.5; G3 -8.5,4.5; G4 -7.5,4.5; G5 -6.5,4.5; G6 -5.5,4.5; G7 -4.5,4.5; G8 -3.5,4.5; G9 -2.5,4.5; G10 -1.5,4.5; G11 -0.5,4.5; G12 0.5,4.5; G13 1.5,4.5; G14 2.5,4.5; G15 3.5,4.5; G16 4.5,4.5; G17 5.5,4.5; G18 6.5,4.5; G19 7.5,4.5; G20 8.5,4.5; G21 9.5,4.5; G22 10.5,4.5; H1 -10.5,3.5; H2 -9.5,3.5; H3 -8.5,3.5; H4 -7.5,3.5; H5 -6.5,3.5; H6 -5.5,3.5; H7 -4.5,3.5; H8 -3.5,3.5; H9 -2.5,3.5; H10 -1.5,3.5; H11 -0.5,3.5; H12 0.5,3.5; H13 1.5,3.5; H14 2.5,3.5; H15 3.5,3.5; H16 4.5,3.5; H17 5.5,3.5; H18 6.5,3.5; H19 7.5,3.5; H20 8.5,3.5; H21 9.5,3.5; H22 10.5,3.5; J1 -10.5,2.5; J2 -9.5,2.5; J3 -8.5,2.5; J4 -7.5,2.5; J5 -6.5,2.5; J6 -5.5,2.5; J7 -4.5,2.5; J8 -3.5,2.5; J9 -2.5,2.5; J10 -1.5,2.5; J11 -0.5,2.5; J12 0.5,2.5; J13 1.5,2.5; J14 2.5,2.5; J15 3.5,2.5; J16 4.5,2.5; J17 5.5,2.5; J18 6.5,2.5; J19 7.5,2.5; J20 8.5,2.5; J21 9.5,2.5; J22 10.5,2.5; K1 -10.5,1.5; K2 -9.5,1.5; K3 -8.5,1.5; K4 -7.5,1.5; K5 -6.5,1.5; K6 -5.5,1.5; K7 -4.5,1.5; K8 -3.5,1.5; K9 -2.5,1.5; K10 -1.5,1.5; K11 -0.5,1.5; K12 0.5,1.5; K13 1.5,1.5; K14 2.5,1.5; K15 3.5,1.5; K16 4.5,1.5; K17 5.5,1.5; K18 6.5,1.5; K19 7.5,1.5; K20 8.5,1.5; K21 9.5,1.5; K22 10.5,1.5; L1 -10.5,0.5; L2 -9.5,0.5; L3 -8.5,0.5; L4 -7.5,0.5; L5 -6.5,0.5; L6 -5.5,0.5; L7 -4.5,0.5; L8 -3.5,0.5; L9 -2.5,0.5; L10 -1.5,0.5; L11 -0.5,0.5; L12 0.5,0.5; L13 1.5,0.5; L14 2.5,0.5; L15 3.5,0.5; L16 4.5,0.5; L17 5.5,0.5; L18 6.5,0.5; L19 7.5,0.5; L20 8.5,0.5; L21 9.5,0.5; L22 10.5,0.5; M1 -10.5,-0.5; M2 -9.5,-0.5; M3 -8.5,-0.5; M4 -7.5,-0.5; M5 -6.5,-0.5; M6 -5.5,-0.5; M7 -4.5,-0.5; M8 -3.5,-0.5; M9 -2.5,-0.5; M10 -1.5,-0.5; M11 -0.5,-0.5; M12 0.5,-0.5; M13 1.5,-0.5; M14 2.5,-0.5; M15 3.5,-0.5; M16 4.5,-0.5; M17 5.5,-0.5; M18 6.5,-0.5; M19 7.5,-0.5; M20 8.5,-0.5; M21 9.5,-0.5; M22 10.5,-0.5; N1 -10.5,-1.5; N2 -9.5,-1.5; N3 -8.5,-1.5; N4 -7.5,-1.5; N5 -6.5,-1.5; N6 -5.5,-1.5; N7 -4.5,-1.5; N8 -3.5,-1.5; N9 -2.5,-1.5; N10 -1.5,-1.5; N11 -0.5,-1.5; N12 0.5,-1.5; N13 1.5,-1.5; N14 2.5,-1.5; N15 3.5,-1.5; N16 4.5,-1.5; N17 5.5,-1.5; N18 6.5,-1.5; N19 7.5,-1.5; N20 8.5,-1.5; N21 9.5,-1.5; N22 10.5,-1.5; P1 -10.5,-2.5; P2 -9.5,-2.5; P3 -8.5,-2.5; P4 -7.5,-2.5; P5 -6.5,-2.5; P6 -5.5,-2.5; P7 -4.5,-2.5; P8 -3.5,-2.5; P9 -2.5,-2.5; P10 -1.5,-2.5; P11 -0.5,-2.5; P12 0.5,-2.5; P13 1.5,-2.5; P14 2.5,-2.5; P15 3.5,-2.5; P16 4.5,-2.5; P17 5.5,-2.5; P18 6.5,-2.5; P19 7.5,-2.5; P20 8.5,-2.5; P21 9.5,-2.5; P22 10.5,-2.5; R1 -10.5,-3.5; R2 -9.5,-3.5; R3 -8.5,-3.5; R4 -7.5,-3.5; R5 -6.5,-3.5; R6 -5.5,-3.5; R7 -4.5,-3.5; R8 -3.5,-3.5; R9 -2.5,-3.5; R10 -1.5,-3.5; R11 -0.5,-3.5; R12 0.5,-3.5; R13 1.5,-3.5; R14 2.5,-3.5; R15 3.5,-3.5; R16 4.5,-3.5; R17 5.5,-3.5; R18 6.5,-3.5; R19 7.5,-3.5; R20 8.5,-3.5; R21 9.5,-3.5; R22 10.5,-3.5; T1 -10.5,-4.5; T2 -9.5,-4.5; T3 -8.5,-4.5; T4 -7.5,-4.5; T5 -6.5,-4.5; T6 -5.5,-4.5; T7 -4.5,-4.5; T8 -3.5,-4.5; T9 -2.5,-4.5; T10 -1.5,-4.5; T11 -0.5,-4.5; T12 0.5,-4.5; T13 1.5,-4.5; T14 2.5,-4.5; T15 3.5,-4.5; T16 4.5,-4.5; T17 5.5,-4.5; T18 6.5,-4.5; T19 7.5,-4.5; T20 8.5,-4.5; T21 9.5,-4.5; T22 10.5,-4.5; U1 -10.5,-5.5; U2 -9.5,-5.5; U3 -8.5,-5.5; U4 -7.5,-5.5; U5 -6.5,-5.5; U6 -5.5,-5.5; U7 -4.5,-5.5; U8 -3.5,-5.5; U9 -2.5,-5.5; U10 -1.5,-5.5; U11 -0.5,-5.5; U12 0.5,-5.5; U13 1.5,-5.5; U14 2.5,-5.5; U15 3.5,-5.5; U16 4.5,-5.5; U17 5.5,-5.5; U18 6.5,-5.5; U19 7.5,-5.5; U20 8.5,-5.5; U21 9.5,-5.5; U22 10.5,-5.5; V1 -10.5,-6.5; V2 -9.5,-6.5; V3 -8.5,-6.5; V4 -7.5,-6.5; V5 -6.5,-6.5; V6 -5.5,-6.5; V7 -4.5,-6.5; V8 -3.5,-6.5; V9 -2.5,-6.5; V10 -1.5,-6.5; V11 -0.5,-6.5; V12 0.5,-6.5; V13 1.5,-6.5; V14 2.5,-6.5; V15 3.5,-6.5; V16 4.5,-6.5; V17 5.5,-6.5; V18 6.5,-6.5; V19 7.5,-6.5; V20 8.5,-6.5; V21 9.5,-6.5; V22 10.5,-6.5; W1 -10.5,-7.5; W2 -9.5,-7.5; W3 -8.5,-7.5; W4 -7.5,-7.5; W5 -6.5,-7.5; W6 -5.5,-7.5; W7 -4.5,-7.5; W8 -3.5,-7.5; W9 -2.5,-7.5; W10 -1.5,-7.5; W11 -0.5,-7.5; W12 0.5,-7.5; W13 1.5,-7.5; W14 2.5,-7.5; W15 3.5,-7.5; W16 4.5,-7.5; W17 5.5,-7.5; W18 6.5,-7.5; W19 7.5,-7.5; W20 8.5,-7.5; W21 9.5,-7.5; W22 10.5,-7.5; Y1 -10.5,-8.5; Y2 -9.5,-8.5; Y3 -8.5,-8.5; Y4 -7.5,-8.5; Y5 -6.5,-8.5; Y6 -5.5,-8.5; Y7 -4.5,-8.5; Y8 -3.5,-8.5; Y9 -2.5,-8.5; Y10 -1.5,-8.5; Y11 -0.5,-8.5; Y12 0.5,-8.5; Y13 1.5,-8.5; Y14 2.5,-8.5; Y15 3.5,-8.5; Y16 4.5,-8.5; Y17 5.5,-8.5; Y18 6.5,-8.5; Y19 7.5,-8.5; Y20 8.5,-8.5; Y21 9.5,-8.5; Y22 10.5,-8.5